# EAGLE library part DUAL_H-BRIDGE (library mkfab)
MOSFET H-BRIDGE DUAL SM-8 DigiKey: ZXMHC3A01T8CT-ND
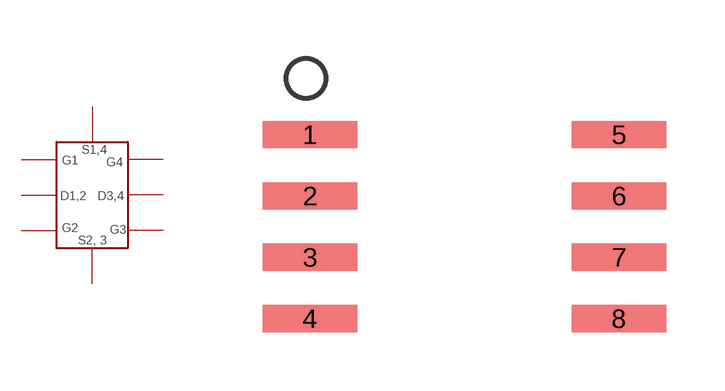
[diagram p1: symbol with the pads of SM-8; footprint SM-8]

Designator prefix -

## DUAL_H-BRIDGE  [SM-8]
1  G3  in
2  S2,3
3  G2  in
4  G1  in
5  G4  in
6  D3,4  out
7  S1,4
8  D1,2  out

## Footprint SM-8 (pad centres in mm)
smd 2.413 x 0.698: 1 -3.962,2.362; 2 -3.962,0.787; 3 -3.962,-0.787; 4 -3.962,-2.362; 5 3.962,2.362; 6 3.962,0.787; 7 3.962,-0.787; 8 3.962,-2.362